# EAGLE library part S27KS0642GABHI020 (library ICs)
PSRAM (Pseudo SRAM) Memory IC 64Mbit 8MB HyperBus 200 MHz 35 ns 24-FBGA (6x8)
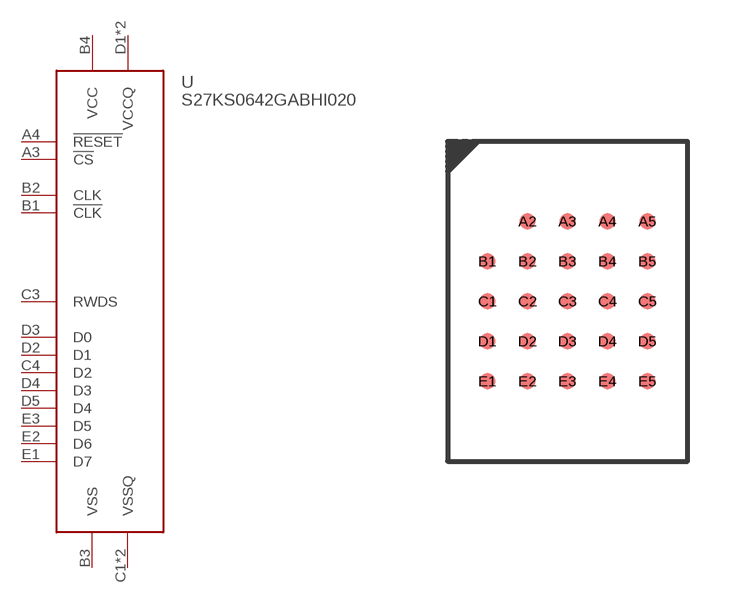
[diagram p314: symbol with the pads of VBGA24; footprint VBGA24]

Designator prefix U

## S27KS0642GABHI020 (DIGIKEY: 448-S27KS0642GABHI020-ND; HEIGHT: 2; PRICE_PER: 4.72; VALUE: PSRAM 64MBIT)  [VBGA24]
A3  !CS
A4  !RESET
B1  !CLK
B2  CLK
B3  VSS
B4  VCC
C1  VSSQ
C3  RWDS
C4  D2
D1  VCCQ
D2  D1
D3  D0
D4  D3
D5  D4
E1  D7
E2  D6
E3  D5
E4  VCCQ
E5  VSSQ

## Footprint VBGA24 (pad centres in mm)
smd 0.4 x 0.4: A2 -1,2; A3 0,2; A4 1,2; A5 2,2; B1 -2,1; B2 -1,1; B3 0,1; B4 1,1; B5 2,1; C1 -2,0; C2 -1,0; C3 0,0; C4 1,0; C5 2,0; D1 -2,-1; D2 -1,-1; D3 0,-1; D4 1,-1; D5 2,-1; E1 -2,-2; E2 -1,-2; E3 0,-2; E4 1,-2; E5 2,-2